# Altium integrated library LD1117DT33TR.IntLib: 1 symbol
Pins are listed as number, name and electrical type; pins without a type are passive.

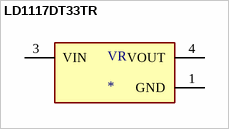
[diagram p0: symbol LD1117DT33TR]

## LD1117DT33TR
designator VR
Linear Voltage Regulator IC 1 Output 800mA DPAK; MP: LD1117DT33TR; MF: STMicroelectronics; Package: TO-252 STMicroelectronics; Value: *; Price: None; SnapEDA_Link: https://www.snapeda.com/parts/LD1117DT33TR/STMicroelectronics/view-part/8105/?ref=snap; Availability: Unavailable
footprint DPAK456P1010X240-3N
pins: 1 GND (power), 3 VIN, 4 VOUT